# Altium integrated library optics.IntLib: 2 symbols
Pins are listed as number, name and electrical type; pins without a type are passive.

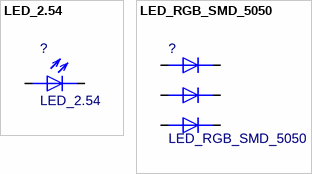
[diagram p0: symbols LED_2.54 to LED_RGB_SMD_5050]

## LED_2.54
designator ?
Value: *
footprint LED_2.54
pins: 1, 2

## LED_RGB_SMD_5050
designator ?
Value: *
footprint SMD_5050_LED_RGB
pins: 1, 2, 3, 4, 5, 6